# EAGLE library part BMI085 (library BMI085)
IMUs - Inertial Measurement Units High-performance IMU BMI085 for virtual and augmented reality applications Source: Datasheet <https://ae-bst.resource.bosch.com/media/_tech/media/datasheets/BST-BMI085-DS001.pdf>
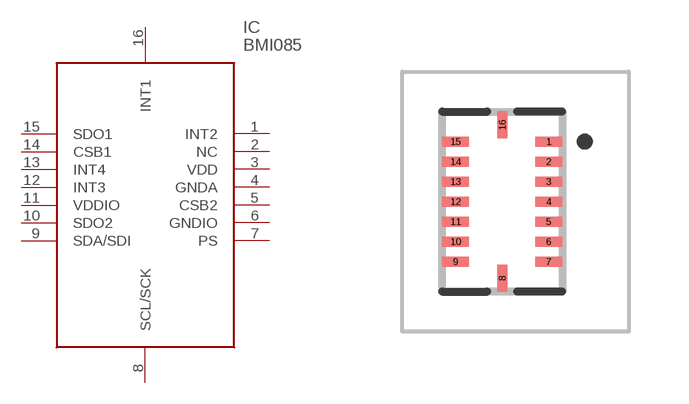
[diagram p0: symbol with the pads of BMI085; footprint BMI085]

Designator prefix IC

## BMI085 (Arrow_Part_Number: BMI085; Arrow_Price-Stock: https://www.arrow.com/en/products/bmi085/bosch; Description: IMUs - Inertial Measurement Units High-performance IMU BMI085 for virtual and augmented reality applications; Height: 1mm; Manufacturer_Name: BOSCH; Manufacturer_Part_Number: BMI085; Mouser_Part_Number: 262-BMI085; Mouser_Price-Stock: https://www.mouser.co.uk/ProductDetail/Bosch-Sensortec/BMI085?qs=y6ZabgHbY%252ByGCM8LfWZyqA%3D%3D)  [BMI085]
1  INT2
2  NC  nc
3  VDD
4  GNDA
5  CSB2
6  GNDIO
7  PS
8  SCL/SCK
9  SDA/SDI
10  SDO2
11  VDDIO
12  INT3
13  INT4
14  CSB1
15  SDO1
16  INT1

## Footprint BMI085 (pad centres in mm)
BMI085
smd 0.675 x 0.25: 1 1.165,1.5; 2 1.165,1; 3 1.165,0.5; 4 1.165,0; 5 1.165,-0.5; 6 1.165,-1; 7 1.165,-1.5; 9 -1.165,-1.5; 10 -1.165,-1; 11 -1.165,-0.5; 12 -1.165,0; 13 -1.165,0.5; 14 -1.165,1; 15 -1.165,1.5
smd 0.25 x 0.675: 8 0,-1.915; 16 0,1.915